# Altium footprint library SMD Leds.PcbLib: 6 footprints
Each footprint in its own frame and in the unit in brackets; x right, y up, seen from the top. Pads: shape width x height; smd on the part's side, far side on the other; paste and mask are expansions set on the pad; w line width, h text height; cw(c..) or ccw(c..) is an arc to the next point about the centre after c.
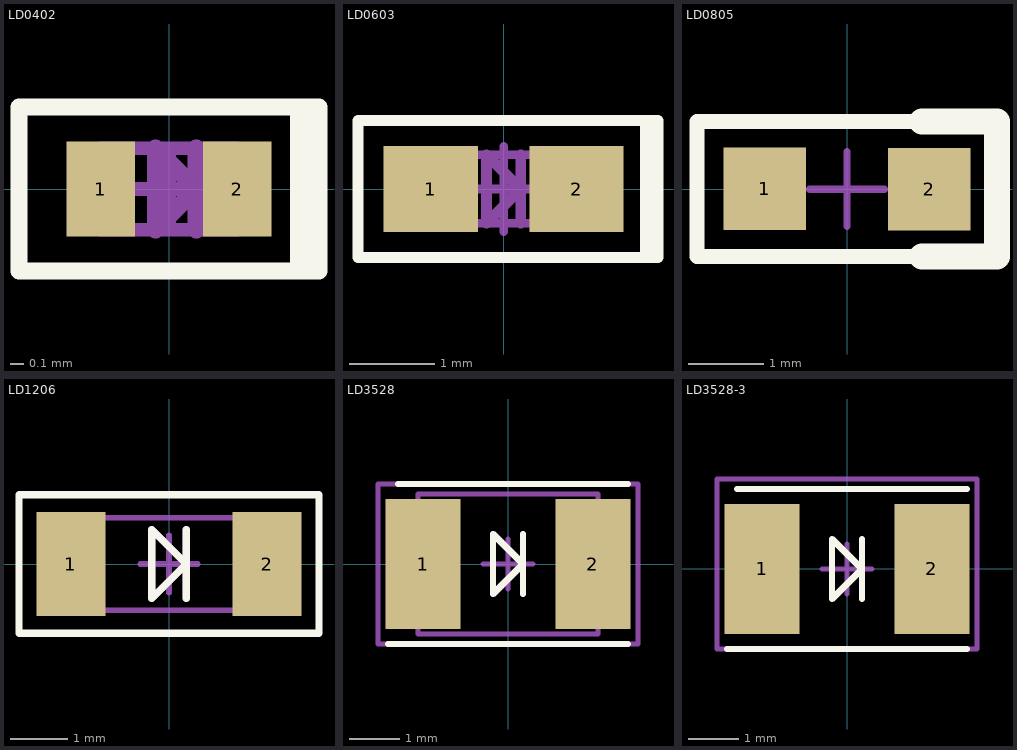
[diagram p0: the footprints below, top view; thin cyan lines are the x and y axes]

## LD0402 [mm] "1005M"
height 0.4
pads (2):
  rect 0.5x0.7 smd: 1(-0.5,0) 2(0.5,0)
Top Overlay:
  lines w0.125: 0.95,-0.6 0.95,0.6 ; 1,-0.6 1,0.6 ; -1.1,-0.6 1.1,-0.6 1.1,0.6 -1.1,0.6 -1.1,-0.6
Mechanical 7:
  lines w0.05: -1.1,-0.6 1.1,-0.6 1.1,0.6 -1.1,0.6 -1.1,-0.6
  text ".Designator" at -0.7,-0.2 h0.7
Mechanical 13:
  lines w0.1: -0.5,-0.3 0.5,-0.3 0.5,0.3 -0.5,0.3 -0.5,-0.3
  lines w0.125: 0.2,-0.3 0.2,0.3 ; 0.2,0 -0.1,-0.3 -0.1,0.3 0.2,0 ; 0.2,0 0.2,0
Mechanical 15:
  lines w0.1: -0.25,0 0.25,0 ; 0,-0.25 0,0.25 ; -1.1,-0.6 -1.1,0.6 1.1,0.6 1.1,-0.6 -1.1,-0.6
3D body "User Library-LED_1006_W.STEP": height 0.2, standoff 0, extent -0.5,-0.3 0.5,0.3

## LD0603 [mm]
height 0.6
pads (2):
  rect 1.1x1 smd: 1(-0.85,0) 2(0.85,0)
Top Overlay:
  lines w0.125: 1.65,-0.8 1.65,0.8 ; 1.7,-0.8 1.7,0.8 ; -1.7,-0.8 1.8,-0.8 1.8,0.8 -1.7,0.8 -1.7,-0.8
Mechanical 7:
  lines w0.05: -1.7,-0.8 1.8,-0.8 1.8,0.8 -1.7,0.8 -1.7,-0.8
  text ".Designator" at -1.5,-0.25 h1.2
Mechanical 13:
  lines w0.1: -0.8,-0.4 0.8,-0.4 0.8,0.4 -0.8,0.4 -0.8,-0.4
  lines w0.125: 0.2,-0.4 0.2,0.4 ; 0.2,0 -0.2,-0.4 -0.2,0.4 0.2,0 ; 0.2,0 0.2,0
Mechanical 15:
  lines w0.1: -0.5,0 0.5,0 ; 0,-0.5 0,0.5 ; -1.7,-0.8 -1.7,0.8 1.7,0.8 1.7,-0.8 -1.7,-0.8
3D body "WL-SMCW_0603_LED.stp": height 0.7, standoff 0, extent -0.8,-0.4 0.8,0.4

## LD0805 [mm]
height 2
pads (2):
  rect 1.1x1.1 smd: 1(-1.1,0) 2(1.1,0)
Top Overlay:
  lines w0.2: 1,-0.9 -2,-0.9 -2,0.9 1,0.9
  lines w0.35: 1,-0.9 2,-0.9 2,0.9 1,0.9
Mechanical 7:
  lines w0.05: -2,-0.9 -2,0.9 2,0.9 2,-0.9 -2,-0.9
  text ".Designator" at -1.75,-0.5 h1.5
Mechanical 15:
  lines w0.1: -0.5,0 0.5,0 ; 0,-0.5 0,0.5 ; -2,-0.9 -2,0.9 2,0.9 2,-0.9 -2,-0.9
3D body "LED_2012_075.STEP": height 0.73, standoff -0.02, extent -1,-0.625 1,0.625

## LD1206 [mm]
height 1.6
pads (2):
  rect 1.2x1.8 smd: 1(-1.7,0) 2(1.7,0)
Top Overlay:
  lines w0.125: 0.3,-0.6 0.3,0.6 ; 0.3,0 -0.3,0.6 -0.3,-0.6 0.3,0 ; 0.3,0 0.3,0 ; -2.6,-1.2 2.6,-1.2 2.6,1.2 -2.6,1.2 -2.6,-1.2
Mechanical 7:
  lines w0.05: -2.6,-1.2 2.6,-1.2 2.6,1.2 -2.6,1.2 -2.6,-1.2
  text ".Designator" at -1.75,-0.5 h1.5
Mechanical 13:
  lines w0.1: -1.6,-0.8 -1.6,0.8 1.6,0.8 1.6,-0.8 -1.6,-0.8
  lines w0.125: 0.3,-0.6 0.3,0.6 ; 0.3,0 -0.3,0.6 -0.3,-0.6 0.3,0 ; 0.3,0 0.3,0
Mechanical 15:
  lines w0.1: -0.5,0 0.5,0 ; 0,-0.5 0,0.5 ; -2.6,-1.2 2.6,-1.2 2.6,1.2 -2.6,1.2 -2.6,-1.2
3D body "WL-SMCW_1206_LED.stp": height 0.68, standoff 0, extent -1.6,-0.8 1.6,0.8

## LD3528 [mm]
height 1.9
pads (2):
  rect 1.5x2.6 smd: 1(-1.7,0) 2(1.7,0)
Top Overlay:
  lines w0.125: -2.4,-1.6 2.4,-1.6 ; -2.2,1.6 2.4,1.6 ; 0.3,-0.6 0.3,0.6 ; 0.3,0 -0.3,-0.6 -0.3,0.6 0.3,0 ; 0.3,0 0.3,0
Mechanical 7:
  lines w0.05: -2.6,-1.6 -2.6,1.6 2.6,1.6 2.6,-1.6 -2.6,-1.6
  text ".Designator" at -1.75,-0.5 h1.5
Mechanical 13:
  lines w0.1: -1.8,-1.4 -1.8,1.4 1.8,1.4 1.8,-1.4 -1.8,-1.4
  lines w0.125: 0.3,-0.6 0.3,0.6 ; 0.3,0 -0.3,0.6 -0.3,-0.6 0.3,0 ; 0.3,0 0.3,0
Mechanical 15:
  lines w0.1: -0.5,0 0.5,0 ; 0,-0.5 0,0.5 ; -2.6,-1.6 2.6,-1.6 2.6,1.6 -2.6,1.6 -2.6,-1.6
3D body "User Library-Everlight 67-21SRC-TR8.STEP": height 1.86, standoff 0, extent -1.75,-1.4 1.75,1.4

## LD3528-3 [mm]
height 1.9
pads (2):
  rect 1.5x2.6 smd: 1(-1.7,0) 2(1.7,0)
Top Overlay:
  lines w0.125: -2.4,-1.6 2.4,-1.6 ; -2.2,1.6 2.4,1.6 ; 0.3,-0.6 0.3,0.6 ; 0.3,0 -0.3,-0.6 -0.3,0.6 0.3,0 ; 0.3,0 0.3,0
Mechanical 7:
  lines w0.05: -2.6,-1.6 -2.6,1.8 2.6,1.8 2.6,-1.6 -2.6,-1.6
  text ".Designator" at -1.75,-0.5 h1.5
Mechanical 15:
  lines w0.1: -0.5,0 0.5,0 ; 0,-0.5 0,0.5 ; -2.6,-1.6 2.6,-1.6 2.6,1.8 -2.6,1.8 -2.6,-1.6
3D body "User Library-PLCC4RGBCT-CA LED SMD RGB.step": height 1.75, standoff -0.15, extent -1.65,-1.2 1.85,1.6